# EAGLE library part ABX00042_HEADERS_IO (library ABX00042)
Device for Portenta H7 pin headers IO
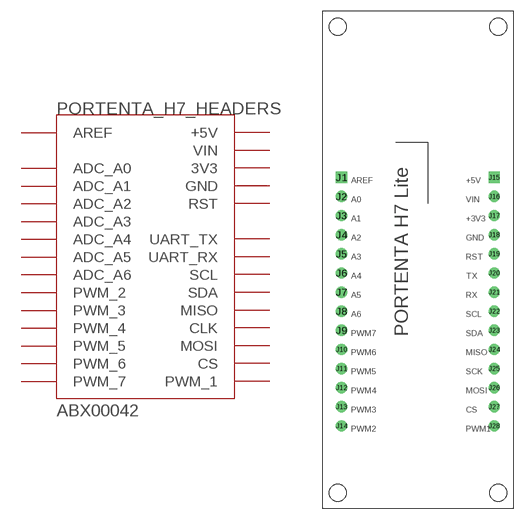
[diagram p1: symbol with the pads of MODULE_ABX00042_HEADERS; footprint MODULE_ABX00042_HEADERS]

Designator prefix -

## ABX00042_HEADERS_IO  [MODULE_ABX00042_HEADERS]
J1  AREF
J2  ADC_A0
J3  ADC_A1
J4  ADC_A2
J5  ADC_A3
J6  ADC_A4
J7  ADC_A5
J8  ADC_A6
J9  PWM_7
J10  PWM_6
J11  PWM_5
J12  PWM_4
J13  PWM_3
J14  PWM_2
J15  +5V
J16  VIN
J17  3V3
J18  GND
J19  RST
J20  UART_TX
J21  UART_RX
J22  SCL
J23  SDA
J24  MISO
J25  CLK
J26  MOSI
J27  CS
J28  PWM_1

## Footprint MODULE_ABX00042_HEADERS (pad centres in mm)
Footprint of Portenta H7 top header pinout
drill 1 square: J1 -10.135,10.947; J15 10.135,10.947
drill 1: J2 -10.135,8.407; J3 -10.135,5.867; J4 -10.135,3.327; J5 -10.135,0.787; J6 -10.135,-1.753; J7 -10.135,-4.293; J8 -10.135,-6.833; J9 -10.135,-9.373; J10 -10.135,-11.913; J11 -10.135,-14.453; J12 -10.135,-16.993; J13 -10.135,-19.533; J14 -10.135,-22.073; J16 10.135,8.407; J17 10.135,5.867; J18 10.135,3.327; J19 10.135,0.787; J20 10.135,-1.753; J21 10.135,-4.293; J22 10.135,-6.833; J23 10.135,-9.373; J24 10.135,-11.913; J25 10.135,-14.453; J26 10.135,-16.993; J27 10.135,-19.533; J28 10.135,-22.073
hole 2.25 at -10.67,30.99
hole 2.25 at 10.67,30.99
hole 2.25 at 10.67,-30.99
hole 2.25 at -10.67,-30.99